# Altium schematic symbol library 20240501.SchLib: 22 symbols
Pins are listed as number, name and electrical type; pins without a type are passive.

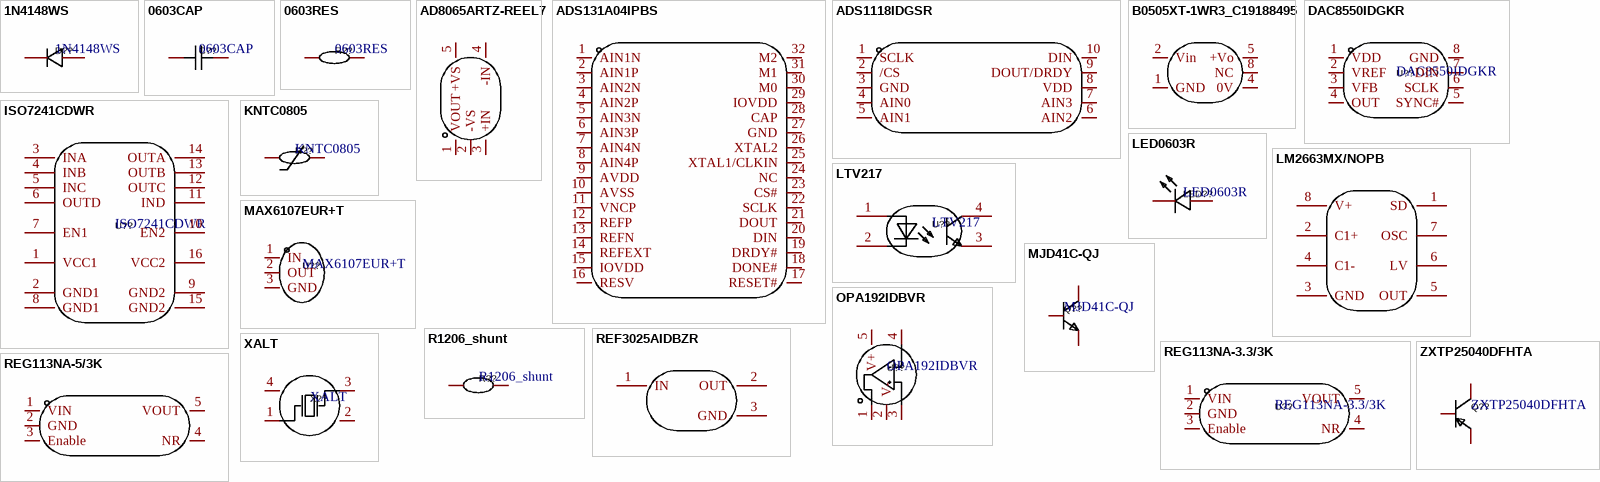
[diagram p0: symbols 1N4148WS to ZXTP25040DFHTA]

## 1N4148WS
designator D??
Manufacturer: CJ(江苏长电/长晶); Symbol: 1N4148WS T4; Device: 1N4148WS_C2128; Add into BOM: yes; Diode Configuration: 独立式; Forward Voltage (Vf@If): 1.25V@150mA; Reverse Voltage (Vr): 100V; Average Rectified Current (Io): 150mA; Power Dissipation: 200mW; Reverse Leakage Current: 1uA@75V; Reverse Recovery Time (trr): 4ns; Supplier: LCSC; Manufacturer Part: 1N4148WS; Supplier Part: C2128; JLCPCB Part Class: Basic Part; LCSC Part Name: 电压:100V 电流:150mA; Supplier Footprint: SOD-323; Datasheet: https://atta.szlcsc.com/upload/public/pdf/source/20140809/1457707208178.pdf; Convert to PCB: yes; Operating Temperature: -
footprint SOD-323_L1.8-W1.3-LS2.5-RD
pins: 1 K, 2 A

## 0603CAP
designator C??
Manufacturer: FH(风华); Symbol: 0603DS475K160NT; Add into BOM: yes; Device: 0603DS475K160NT; LCSC Part Name: 贴片电容; Supplier Part: C18213190; Manufacturer Part: 0603DS475K160NT; Supplier Footprint: 0603; JLCPCB Part Class: Extended Part; Datasheet: https://atta.szlcsc.com/upload/public/pdf/source/20220211/3FDF6092789FC56E23A16E03DC7301F9.pdf; Supplier: LCSC; Convert to PCB: yes
footprint C0603
pins: 1, 2

## 0603RES
designator R??
Manufacturer: UNI-ROYAL(厚声); Symbol: 0603WAF1002T5E; Value: 10kΩ; Add into BOM: yes; Tolerance: ±1%; Power(Watts): 100mW; Overload Voltage (Max): 75V; Temperature Coefficient: ±100ppm/℃; Device: 0603WAF1002T5E; Supplier: LCSC; Manufacturer Part: 0603WAF1002T5E; Supplier Part: C25804; JLCPCB Part Class: Basic Part; LCSC Part Name: 厚膜电阻 10kΩ ±1% 100mW; Supplier Footprint: 0603; Datasheet: https://atta.szlcsc.com/upload/public/pdf/source/20200306/C422600_1E6D84923E4A46A82E41ADD87F860B5C.pdf; Convert to PCB: yes; Type: 厚膜电阻; Operating Temperature Range: -55℃~+155℃
footprint R0603
pins: 1, 2

## AD8065ARTZ-REEL7
designator U??  (value not drawn)
Manufacturer: ADI(亚德诺); Add into BOM: yes; Slew Rate(SR): 180V/us; Supply Current Per Channel: 6.6mA; Symbol: AD8065ARTZ-REEL7; Device: AD8065ARTZ-REEL7; LCSC Part Name: AD8065ARTZ-REEL7; Supplier Part: C9648; Manufacturer Part: AD8065ARTZ-REEL7; Supplier Footprint: SOT-23-5; JLCPCB Part Class: Extended Part; Datasheet: https://atta.szlcsc.com/upload/public/pdf/source/20190724/C406721_7F0014C6A9B930583CF1868CC468A0F9.pdf; Supplier: LCSC; Convert to PCB: yes; Operating Temperature: -40℃~+85℃
footprint SOT-23-5_L3.0-W1.7-P0.95-LS2.8-BR
pins: 1 VOUT, 2 -VS, 3 +IN, 4 -IN, 5 +VS

## ADS131A04IPBS
designator U??  (value not drawn)
Manufacturer: TI(德州仪器); Add into BOM: yes; Supply Voltage: 1.65V~3.6V；3V~5.5V; Symbol: ADS131A04IPBS; Device: ADS131A04IPBS; LCSC Part Name: ADS131A04IPBS; Supplier Part: C2861481; Manufacturer Part: ADS131A04IPBS; Supplier Footprint: TQFP-32(5x5); JLCPCB Part Class: Extended Part; Datasheet: https://www.ti.com/cn/lit/gpn/ads131a02; Supplier: LCSC; Convert to PCB: yes
footprint TQFP-32_L5.0-W5.0-P0.50-LS7.0-BL
pins: 1 AIN1N, 2 AIN1P, 3 AIN2N, 4 AIN2P, 5 AIN3N, 6 AIN3P, 7 AIN4N, 8 AIN4P, 9 AVDD, 10 AVSS, 11 VNCP, 12 REFP, 13 REFN, 14 REFEXT, 15 IOVDD, 16 RESV, 17 RESET#, 18 DONE#, 19 DRDY#, 20 DIN, 21 DOUT, 22 SCLK, 23 CS#, 24 NC, 25 XTAL1/CLKIN, 26 XTAL2, 27 GND, 28 CAP, 29 IOVDD, 30 M0, 31 M1, 32 M2

## ADS1118IDGSR
designator U??  (value not drawn)
Manufacturer: TI(德州仪器); Symbol: ADS1118IDGSR_C55347; Add into BOM: yes; Device: ADS1118IDGSR; Supplier: LCSC; Supplier Part: C55347; Manufacturer Part: ADS1118IDGSR; JLCPCB Part Class: Extended Part; LCSC Part Name: ADS1118IDGSR; Supplier Footprint: VSSOP-10-0.5mm; Datasheet: https://www.ti.com/cn/lit/gpn/ads1118; Convert to PCB: yes
footprint VSSOP-10_L3.0-W3.0-P0.50-LS4.9-BL
pins: 1 SCLK, 2 /CS, 3 GND, 4 AIN0, 5 AIN1, 6 AIN2, 7 AIN3, 8 VDD, 9 DOUT/DRDY, 10 DIN

## B0505XT-1WR3_C19188495
designator U??  (value not drawn)
Manufacturer: EVISUN(易成); Add into BOM: yes; Conversion Type: DC-DC; Input Voltage(DC): 4.5V~5.5V; Output Voltage: 5V; Output Power: 1W; Output Current (Max): 200mA; Isolation or not: 隔离; Output Channel: 1; Insulated Voltage: 1.5kV; Conversion Efficiency: 86%; Maximum Capacitive Load: 2400uF; Symbol: B0505XT-1WR3_ C19188495; Device: B0505XT-1WR3_C19188495; LCSC Part Name: DC-DC隔离电源模块; Supplier Part: C19188495; Manufacturer Part: B0505XT-1WR3; Supplier Footprint: SMD-5; JLCPCB Part Class: Extended Part; Datasheet: https://atta.szlcsc.com/upload/public/pdf/source/20231110/0330F966FFC55F51EF9822C78092D320.pdf; Supplier: LCSC; Convert to PCB: yes
footprint PWRM-TH_BXXXXXT-1WR3
pins: 1 GND, 2 Vin, 4 0V, 5 +Vo, 8 NC

## DAC8550IDGKR
designator U??
Manufacturer: TI(德州仪器); Add into BOM: yes; Symbol: DAC8550IDGKR; Device: DAC8550IDGKR; LCSC Part Name: DAC8550IDGKR; Supplier Part: C2868131; Manufacturer Part: DAC8550IDGKR; Supplier Footprint: VSSOP-8-0.65mm; JLCPCB Part Class: Extended Part; Datasheet: https://www.ti.com/cn/lit/gpn/dac8550; Supplier: LCSC; Convert to PCB: yes
footprint VSSOP-8_L3.0-W3.0-P0.65-LS5.0-BL
pins: 1 VDD, 2 VREF, 3 VFB, 4 OUT, 5 SYNC#, 6 SCLK, 7 DIN, 8 GND

## ISO7241CDWR
designator U??
Manufacturer: TI(德州仪器); Add into BOM: yes; Voltage Isolation or Not: 带电压隔离; Supply Voltage: 3.15V~5.5V; Data Rate: 25Mbps; Number of Channels: 4; Isolation voltage: 2500Vrms; Forward Channel: 3; Reverse channel: 1; Isolation Technology: 电容隔离; Symbol: ISO7241CDWR; Device: ISO7241CDWR; LCSC Part Name: 高速四通道数字隔离器; Supplier Part: C133245; Manufacturer Part: ISO7241CDWR; Supplier Footprint: SOIC-16-300mil; JLCPCB Part Class: Extended Part; Datasheet: https://www.ti.com/cn/lit/gpn/iso7241c; Supplier: LCSC; Convert to PCB: yes; Applications: 通用; Operating Temperature: -40℃~+125℃
footprint SOIC-16_L10.3-W7.5-P1.27-LS10.3-BL
pins: 1 VCC1, 2 GND1, 3 INA, 4 INB, 5 INC, 6 OUTD, 7 EN1, 8 GND1, 9 GND2, 10 EN2, 11 IND, 12 OUTC, 13 OUTB, 14 OUTA, 15 GND2, 16 VCC2

## KNTC0805
designator R??
Manufacturer: KUU; Symbol: KNTC0805/10KF3950; Add into BOM: yes; Resistance @ 25℃: 10kΩ; B Constant (25℃/50℃): 3950K; Resistance Tolerance: ±1%; B Constant (25℃/85℃): 3987K; Power: 100mW; Steady State Current (Max): 440uA; Device: KNTC0805/10KF3950; Supplier: LCSC; Supplier Part: C2892549; Manufacturer Part: KNTC0805/10KF3950; JLCPCB Part Class: Extended Part; LCSC Part Name: 10kΩ 电阻精度:±1% 3950K; Supplier Footprint: 0805; Datasheet: https://atta.szlcsc.com/upload/public/pdf/source/20210908/807609DBC36A8EA3650FF46134591C85.pdf; Convert to PCB: yes; B Constant (25℃/75℃): -; B Constant (25℃/100℃): -; B Constant Tolerance: ±1%; Operating Temperature: -40℃~+125℃
footprint R0805
pins: 1, 2

## LED0603R
designator LED??
Manufacturer: yongyu(永裕光电); Symbol: SZYY0603R; Add into BOM: yes; Emitted Color: 红色; Power Dissipation: 40mW; Forward Current: 20mA; Dominant Wavelength: 615nm~630nm; Peak Wavelength: 645nm; Lens Color: 无色透明透镜; Viewing Angle: 120°; Device: SZYY0603R; LCSC Part Name: 红灯; Supplier Part: C434419; Manufacturer Part: SZYY0603R; Supplier Footprint: 0603; JLCPCB Part Class: Extended Part; Datasheet: https://atta.szlcsc.com/upload/public/pdf/source/20191204/C434419_0B955C1F73FF88449D9A795B6FF49070.pdf; Supplier: LCSC; Convert to PCB: yes; Diode Configuration: -; Color Temperature: -; Mounting Sytle: -; Operating Temperature: -40℃~+85℃
footprint LED0603-R-RD
pins: 1 +, 2 -

## LM2663MX/NOPB
designator U??  (value not drawn)
Manufacturer: TI(德州仪器); Add into BOM: yes; Output Type: 固定; Input Voltage: 1.5V~5.5V; Output Voltage: -5.5V~-1.5V; Output Current (Max): 200mA; Switching Frequency: 75kHz；10kHz; Synchronous Rectification: 否; Number of Outputs: 1; Switch tube (built-in/external): 内置; Symbol: LM2663MX/NOPB; Device: LM2663MX/NOPB; LCSC Part Name: LM2663MX/NOPB; Supplier Part: C73869; Manufacturer Part: LM2663MX/NOPB; Supplier Footprint: SOIC-8; JLCPCB Part Class: Extended Part; Datasheet: https://www.ti.com/cn/lit/gpn/lm2662; Supplier: LCSC; Convert to PCB: yes; Function: -; Operating Temperature: -40℃~+85℃@(TA); Topology: -
footprint SOIC-8_L4.9-W3.9-P1.27-LS6.0-BL
pins: 1 SD, 2 C1+, 3 GND, 4 C1-, 5 OUT, 6 LV, 7 OSC, 8 V+

## LTV217
designator U??
Manufacturer: LITEON(光宝); Symbol: LTV-217TP1-B-V-G; Device: LTV217TP1B-V-G; Add into BOM: yes; Input voltage type: DC; Output Type: 光电三极管; Forward Voltage: 1.2V; Output Current: 50mA; Isolation Voltage(rms): 3.75kV; Reverse Voltage: 6V; Receiving End Voltage: 80V; Number of Outputs: 1; Collector-Emitter Saturation Voltage (Vce(sat)@Ic,IF): 400mV@2.4mA,8mA; Rise time: 2us@2mA,100Ω; Fall time: 3us@2mA,100Ω; Supplier: LCSC; Supplier Part: C691224; Manufacturer Part: LTV217TP1B-V-G; JLCPCB Part Class: Extended Part; LCSC Part Name: DC输入 隔离电压(rms):3750V; Supplier Footprint: SOP-4-175mil; Datasheet: https://atta.szlcsc.com/upload/public/pdf/source/20200628/C691224_A3842BE11ED23BDC9BA49378F657CF1F.pdf; Convert to PCB: yes; Operating Temperature: -55℃~+110℃
footprint OPTO-SMD-4_L4.4-W2.7-P1.27-LS7.0-TL
pins: 1, 2, 3, 4

## MAX6107EUR+T
designator U??
Manufacturer: ADI(亚德诺)/MAXIM(美信); Add into BOM: yes; Output Type: 固定; Input Voltage: 4.7V~12.6V; Output Voltage: 4.5V; Output Current: 5mA; Tolerance: ±0.4%; Temperature Coefficient: 75ppm/℃; Reference Type: 串联; Supply Current: 125uA; Noise - 10Hz to 10kHz: 55uVrms; Symbol: MAX6107EUR+T; Device: MAX6107EUR+T; LCSC Part Name: MAX6107EUR+T; Supplier Part: C2976399; Manufacturer Part: MAX6107EUR+T; Supplier Footprint: SOT-23-3; JLCPCB Part Class: Extended Part; Datasheet: https://atta.szlcsc.com/upload/public/pdf/source/20220221/C33BD342D9E1CCC9DD5FE92C602ECDAE.pdf; Supplier: LCSC; Convert to PCB: yes; Operating Temperature: -40℃~+85℃@(Ta)
footprint SOT-23-3_L2.9-W1.3-P1.90-LS2.4-BR
pins: 1 IN, 2 OUT, 3 GND

## MJD41C-QJ
designator Q??
Manufacturer: Nexperia(安世); Add into BOM: yes; Transistor Type: NPN; Collector Current (Ic): 10A; Collector-Emitter Breakdown Voltage (Vceo): 100V; Power Dissipation (Pd): 1.6W; DC Current Gain (hFE@Ic,Vce): 30@300uA,4V; Transition Frequency (fT): 3MHz; Collector Cut-Off Current (Icbo): 1uA; Collector-Emitter Saturation Voltage (VCE(sat)@Ic,Ib): 1.5V@6A,600mA; Symbol: MJD41C-QJ; Device: MJD41C-QJ; Supplier: LCSC; Supplier Part: C3198530; Manufacturer Part: MJD41C-QJ; JLCPCB Part Class: Extended Part; LCSC Part Name: NPN 电流:10A 耐压:100V; Supplier Footprint: DPAK; Datasheet: https://atta.szlcsc.com/upload/public/pdf/source/20230809/CAF6AB4EFB38BD35A0BF71EF1A813333.pdf; Convert to PCB: yes; Operating Temperature: -
footprint DPAK-3_L6.6-W6.1-P2.28-LS9.9-BR
pins: 1 B, 2 C, 3 E

## OPA192IDBVR
designator U??
Manufacturer: TI(德州仪器); Add into BOM: yes; Number of Circuits: 单路; Gain Bandwidth Product(GBP): 10MHz; Current - Input Bias(Ib): 5pA; Slew Rate(SR): 20V/us; Output Current: 65mA; Symbol: OPA192IDBVR; Device: OPA192IDBVR; LCSC Part Name: OPA192IDBVR; Supplier Part: C139648; Manufacturer Part: OPA192IDBVR; Supplier Footprint: SOT-23-5; JLCPCB Part Class: Extended Part; Datasheet: https://www.ti.com/cn/lit/gpn/opa192; Supplier: LCSC; Convert to PCB: yes; Output Type: -; Rail to Rail: -; Operating Temperature: -40℃~+125℃
footprint SOT-23-5_L3.0-W1.7-P0.95-LS2.8-BL
pins: 1 OUT, 2 V-, 3 IN+, 4 IN-, 5 V+

## R1206_shunt
designator R??
Manufacturer: Milliohm(毫欧); Symbol: HOLLR1206-1W-5MR-1%; Add into BOM: yes; Value: 5mΩ; Tolerance: ±1%; Power(Watts): 1W; Rated Current: 31.6A; Temperature Coefficient: ±50ppm/℃; Mounting Sytle: 贴片; Device: HoLLR1206-1W-5mR-1%; LCSC Part Name: 5mΩ ±1% 1W; Supplier Part: C2988648; Manufacturer Part: HoLLR1206-1W-5mR-1%; Supplier Footprint: 1206; JLCPCB Part Class: Extended Part; Datasheet: https://atta.szlcsc.com/upload/public/pdf/source/20220407/F189C92CC2C10DCB4BF36375122B9E11.pdf; Supplier: LCSC; Convert to PCB: yes; Type: 采样电阻; Rated Output Voltage: -
footprint R1206
pins: 1, 2

## REF3025AIDBZR
designator U??  (value not drawn)
Manufacturer: TI(德州仪器); Add into BOM: yes; Output Type: 固定; Input Voltage: 2.55V~5.5V; Output Voltage: 2.5V; Output Current: 25mA; Tolerance: ±0.2%; Temperature Coefficient: 75ppm/℃; Reference Type: 串联; Supply Current: 50uA; Noise - 1/10Hz to 10Hz: 28uVp-p; Noise - 10Hz to 10kHz: 80uVrms; Symbol: REF3025AIDBZR; Device: REF3025AIDBZR; LCSC Part Name: REF3025AIDBZR; Supplier Part: C11334; Manufacturer Part: REF3025AIDBZR; Supplier Footprint: SOT-23; JLCPCB Part Class: Extended Part; Datasheet: https://www.ti.com/cn/lit/gpn/ref3020; Supplier: LCSC; Convert to PCB: yes; Operating Temperature: -40℃~+125℃@(Ta)
footprint SOT-23-3_L2.9-W1.6-P1.90-LS2.8-BR
pins: 1 IN, 2 OUT, 3 GND

## REG113NA-3.3/3K
designator U??
Manufacturer: TI(德州仪器); Symbol: REG113NA-5/3K; Add into BOM: yes; Output Type: 固定; Maximum Input Voltage: 10V; Output Voltage: 5V; MAX Output Current: 400mA; Power Supply Rejection Ratio (PSRR): 65dB@(120Hz); Dropout Voltage: 410mV@(400mA); standby current: 500uA; Output Polarity: 正极; Number of Outputs: 1; Device: REG113NA-5/3K; LCSC Part Name: 输入10V 输出5V 400mA; Supplier Part: C181330; Manufacturer Part: REG113NA-5/3K; Supplier Footprint: SOT-23-5; JLCPCB Part Class: Extended Part; Datasheet: https://www.ti.com/cn/lit/gpn/reg113; Supplier: LCSC; Convert to PCB: yes; Operating Temperature: -40℃~+85℃
footprint SOT-23-5_L3.0-W1.7-P0.95-LS2.8-BL
pins: 1 VIN, 2 GND, 3 Enable, 4 NR, 5 VOUT

## REG113NA-5/3K
designator U??  (value not drawn)
Manufacturer: TI(德州仪器); Add into BOM: yes; Output Type: 固定; Maximum Input Voltage: 10V; Output Voltage: 5V; MAX Output Current: 400mA; Power Supply Rejection Ratio (PSRR): 65dB@(120Hz); Dropout Voltage: 410mV@(400mA); standby current: 500uA; Output Polarity: 正极; Number of Outputs: 1; Symbol: REG113NA-5/3K; Device: REG113NA-5/3K; LCSC Part Name: 输入10V 输出5V 400mA; Supplier Part: C181330; Manufacturer Part: REG113NA-5/3K; Supplier Footprint: SOT-23-5; JLCPCB Part Class: Extended Part; Datasheet: https://www.ti.com/cn/lit/gpn/reg113; Supplier: LCSC; Convert to PCB: yes; Operating Temperature: -40℃~+85℃
footprint SOT-23-5_L3.0-W1.7-P0.95-LS2.8-BL
pins: 1 VIN, 2 GND, 3 Enable, 4 NR, 5 VOUT

## XALT
designator X??
Manufacturer: YXC(扬兴晶振); Symbol: X322512MSB4SI; Add into BOM: yes; Crystal Type: 贴片晶振; Value: 12MHz; Normal temperature Frequency Tolerance: ±10ppm; External load capacitor: 20pF; Frequency Stability(Full temperature range): ±20ppm; Device: X322512MSB4SI; LCSC Part Name: 12MHz ±10ppm 20pF; Supplier Part: C9002; Manufacturer Part: X322512MSB4SI; Supplier Footprint: SMD3225-4P; JLCPCB Part Class: Basic Part; Datasheet: https://atta.szlcsc.com/upload/public/pdf/source/20240329/19D5F850207469550BEB00D7DFEDBC7A.pdf; Supplier: LCSC; Convert to PCB: yes; Operating Temperature: -40℃~+85℃
footprint OSC-SMD_4P-L3.2-W2.5-BL
pins: 1 OSC1, 2 GND, 3 OSC2, 4 GND

## ZXTP25040DFHTA
designator Q??
Manufacturer: DIODES(美台); Add into BOM: yes; Transistor Type: PNP; Collector Current (Ic): 3A; Collector-Emitter Breakdown Voltage (Vceo): 40V; Power Dissipation (Pd): 1.25W; DC Current Gain (hFE@Ic,Vce): 300@10mA,2V; Transition Frequency (fT): 270MHz; Collector Cut-Off Current (Icbo): 50nA; Collector-Emitter Saturation Voltage (VCE(sat)@Ic,Ib): 165mV@3A,300mA; Symbol: ZXTP25040DFHTA; Device: ZXTP25040DFHTA; Supplier: LCSC; Supplier Part: C211430; Manufacturer Part: ZXTP25040DFHTA; JLCPCB Part Class: Extended Part; LCSC Part Name: 耐压:40V 电流:3A PNP; Supplier Footprint: SOT-23; Datasheet: https://atta.szlcsc.com/upload/public/pdf/source/20180502/C211430_A6D275F0E5342AAB941C824326D5E376.pdf; Convert to PCB: yes; Operating Temperature: -55℃~+150℃@(Tj)
footprint SOT-23-3_L2.9-W1.3-P1.90-LS2.4-BR
pins: 1 B, 2 E, 3 C